# Altium schematic symbol library 2.6 - STM32 L1系列单片机.SchLib: 27 symbols (part 1 of 2)
Pins are listed as number, name and electrical type; pins without a type are passive.

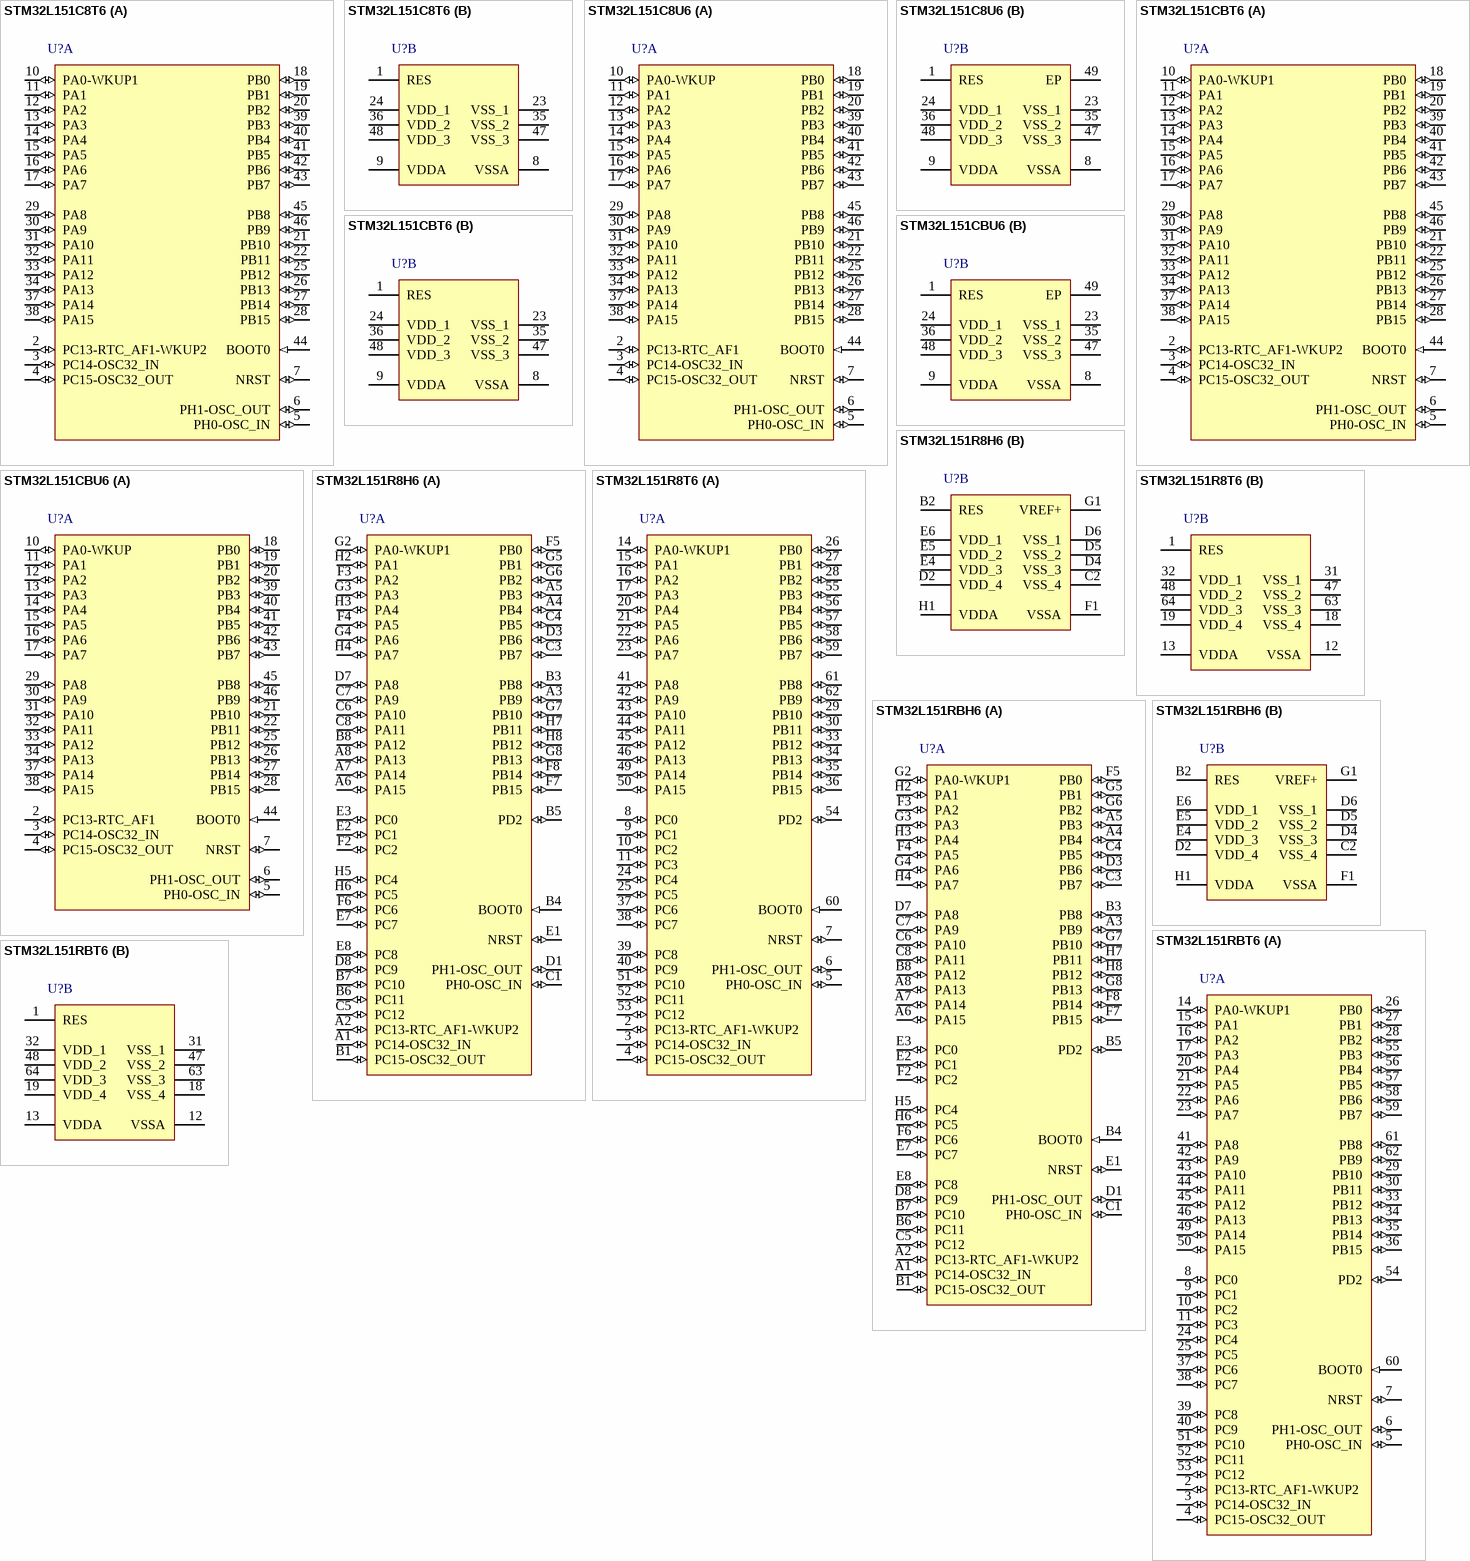
[diagram p0: symbols STM32L151C8T6 to STM32L151RBT6]

## STM32L151C8T6
designator U?
STM32L ARM-based EnergyLite 32-bit MCU, 64 kB Flash, 10 kB Internal RAM, -40 to +85癈 Temperature, 48-pin LQFP, Tray; DatasheetVersion: rev6, Jan-2012; PackageVersion: rev13, Apr-2011; PackageReference: LQFP48; PackageDescription: 48-Pin Low-Profile Quad Flat Pack, 7 x 7 mm Body, 0.5 mm Pitch (LQFP48); ComponentLink1Description: Manufacturer URL; ComponentLink1URL: http://www.st.com/; ComponentLink2Description: STM32L151/152 Datasheet; ComponentLink2URL: http://www.st.com/internet/com/TECHNICAL_RESOURCES/TECHNICAL_LITERATURE/DATASHEET/CD00277537.pdf; ComponentLink3Description: STM32 L1 Family Web Page; ComponentLink3URL: http://www.st.com/internet/mcu/subclass/1376.jsp
footprint LQFP48_N (Thin QFP, 48-Leads, Body 7x7mm, Pitch 0.5mm, IPC Medium Density)
footprint LQFP48_L (Thin QFP, 48-Leads, Body 7x7mm, Pitch 0.5mm, IPC High Density)
footprint LQFP48_M (Thin QFP, 48-Leads, Body 7x7mm, Pitch 0.5mm, IPC Low Density)
part A pins: 2 PC13-RTC_AF1-WKUP2 (io), 3 PC14-OSC32_IN (io), 4 PC15-OSC32_OUT (io), 5 PH0-OSC_IN (io), 6 PH1-OSC_OUT (io), 7 NRST (io), 10 PA0-WKUP1 (io), 11 PA1 (io), 12 PA2 (io), 13 PA3 (io), 14 PA4 (io), 15 PA5 (io), 16 PA6 (io), 17 PA7 (io), 18 PB0 (io), 19 PB1 (io), 20 PB2 (io), 21 PB10 (io), 22 PB11 (io), 25 PB12 (io), 26 PB13 (io), 27 PB14 (io), 28 PB15 (io), 29 PA8 (io), 30 PA9 (io), 31 PA10 (io), 32 PA11 (io), 33 PA12 (io), 34 PA13 (io), 37 PA14 (io), 38 PA15 (io), 39 PB3 (io), 40 PB4 (io), 41 PB5 (io), 42 PB6 (io), 43 PB7 (io), 44 BOOT0 (in), 45 PB8 (io), 46 PB9 (io)
part B pins: 1 RES (power) "Connect to VDD", 8 VSSA (power), 9 VDDA (power), 23 VSS_1 (power), 24 VDD_1 (power), 35 VSS_2 (power), 36 VDD_2 (power), 47 VSS_3 (power), 48 VDD_3 (power)

## STM32L151C8U6
designator U?
STM32L ARM-based EnergyLite 32-bit MCU, 64 kB Flash, 10 kB Internal RAM, -40 to +85癈 Temperature, 48-pin UFQFPN, Tray; DatasheetVersion: rev6, Jan-2012; PackageVersion: 2011; PackageReference: UFQFPN48; PackageDescription: 48-Pin Ultra Thin Fine Pitch Quad Flat No-Lead, 7 x 7 x 0.55 mm Body, 0.5 mm Pitch, Exposed Pad; ComponentLink1Description: Manufacturer URL; ComponentLink1URL: http://www.st.com/; ComponentLink2Description: STM32L151/152 Datasheet; ComponentLink2URL: http://www.st.com/internet/com/TECHNICAL_RESOURCES/TECHNICAL_LITERATURE/DATASHEET/CD00277537.pdf; ComponentLink3Description: STM32 L1 Family Web Page; ComponentLink3URL: http://www.st.com/internet/mcu/subclass/1376.jsp
footprint UFQFPN48_N (QFN, 48-Leads, Body 7x7mm, Pitch 0.5mm, Thermal Pad 5.6x5.6mm, IPC Medium Density)
footprint UFQFPN48_L (QFN, 48-Leads, Body 7x7mm, Pitch 0.5mm, Thermal Pad 5.6x5.6mm, IPC High Density)
footprint UFQFPN48_M (QFN, 48-Leads, Body 7x7mm, Pitch 0.5mm, Thermal Pad 5.6x5.6mm, IPC Low Density)
part A pins: 2 PC13-RTC_AF1 (io), 3 PC14-OSC32_IN (io), 4 PC15-OSC32_OUT (io), 5 PH0-OSC_IN (io), 6 PH1-OSC_OUT (io), 7 NRST (io), 10 PA0-WKUP (io), 11 PA1 (io), 12 PA2 (io), 13 PA3 (io), 14 PA4 (io), 15 PA5 (io), 16 PA6 (io), 17 PA7 (io), 18 PB0 (io), 19 PB1 (io), 20 PB2 (io), 21 PB10 (io), 22 PB11 (io), 25 PB12 (io), 26 PB13 (io), 27 PB14 (io), 28 PB15 (io), 29 PA8 (io), 30 PA9 (io), 31 PA10 (io), 32 PA11 (io), 33 PA12 (io), 34 PA13 (io), 37 PA14 (io), 38 PA15 (io), 39 PB3 (io), 40 PB4 (io), 41 PB5 (io), 42 PB6 (io), 43 PB7 (io), 44 BOOT0 (in), 45 PB8 (io), 46 PB9 (io)
part B pins: 1 RES (power) "Connect to VDD", 8 VSSA (power), 9 VDDA (power), 23 VSS_1 (power), 24 VDD_1 (power), 35 VSS_2 (power), 36 VDD_2 (power), 47 VSS_3 (power), 48 VDD_3 (power), 49 EP (power)

## STM32L151CBT6
designator U?
STM32L ARM-based EnergyLite 32-bit MCU, 128 kB Flash, 16 kB Internal RAM, -40 to +85癈 Temperature, 48-pin LQFP, Tray; DatasheetVersion: rev6, Jan-2012; PackageVersion: rev13, Apr-2011; PackageReference: LQFP48; PackageDescription: 48-Pin Low-Profile Quad Flat Pack, 7 x 7 mm Body, 0.5 mm Pitch (LQFP48); ComponentLink1Description: Manufacturer URL; ComponentLink1URL: http://www.st.com/; ComponentLink2Description: STM32L151/152 Datasheet; ComponentLink2URL: http://www.st.com/internet/com/TECHNICAL_RESOURCES/TECHNICAL_LITERATURE/DATASHEET/CD00277537.pdf; ComponentLink3Description: STM32 L1 Family Web Page; ComponentLink3URL: http://www.st.com/internet/mcu/subclass/1376.jsp
footprint LQFP48_N (Thin QFP, 48-Leads, Body 7x7mm, Pitch 0.5mm, IPC Medium Density)
footprint LQFP48_L (Thin QFP, 48-Leads, Body 7x7mm, Pitch 0.5mm, IPC High Density)
footprint LQFP48_M (Thin QFP, 48-Leads, Body 7x7mm, Pitch 0.5mm, IPC Low Density)
part A pins: 2 PC13-RTC_AF1-WKUP2 (io), 3 PC14-OSC32_IN (io), 4 PC15-OSC32_OUT (io), 5 PH0-OSC_IN (io), 6 PH1-OSC_OUT (io), 7 NRST (io), 10 PA0-WKUP1 (io), 11 PA1 (io), 12 PA2 (io), 13 PA3 (io), 14 PA4 (io), 15 PA5 (io), 16 PA6 (io), 17 PA7 (io), 18 PB0 (io), 19 PB1 (io), 20 PB2 (io), 21 PB10 (io), 22 PB11 (io), 25 PB12 (io), 26 PB13 (io), 27 PB14 (io), 28 PB15 (io), 29 PA8 (io), 30 PA9 (io), 31 PA10 (io), 32 PA11 (io), 33 PA12 (io), 34 PA13 (io), 37 PA14 (io), 38 PA15 (io), 39 PB3 (io), 40 PB4 (io), 41 PB5 (io), 42 PB6 (io), 43 PB7 (io), 44 BOOT0 (in), 45 PB8 (io), 46 PB9 (io)
part B pins: 1 RES (power) "Connect to VDD", 8 VSSA (power), 9 VDDA (power), 23 VSS_1 (power), 24 VDD_1 (power), 35 VSS_2 (power), 36 VDD_2 (power), 47 VSS_3 (power), 48 VDD_3 (power)

## STM32L151CBU6
designator U?
STM32L ARM-based EnergyLite 32-bit MCU, 128 kB Flash, 16 kB Internal RAM, -40 to +85癈 Temperature, 48-pin UFQFPN, Tray; DatasheetVersion: rev6, Jan-2012; PackageVersion: 2011; PackageReference: UFQFPN48; PackageDescription: 48-Pin Ultra Thin Fine Pitch Quad Flat No-Lead, 7 x 7 x 0.55 mm Body, 0.5 mm Pitch, Exposed Pad; ComponentLink1Description: Manufacturer URL; ComponentLink1URL: http://www.st.com/; ComponentLink2Description: STM32L151/152 Datasheet; ComponentLink2URL: http://www.st.com/internet/com/TECHNICAL_RESOURCES/TECHNICAL_LITERATURE/DATASHEET/CD00277537.pdf; ComponentLink3Description: STM32 L1 Family Web Page; ComponentLink3URL: http://www.st.com/internet/mcu/subclass/1376.jsp
footprint UFQFPN48_N (QFN, 48-Leads, Body 7x7mm, Pitch 0.5mm, Thermal Pad 5.6x5.6mm, IPC Medium Density)
footprint UFQFPN48_L (QFN, 48-Leads, Body 7x7mm, Pitch 0.5mm, Thermal Pad 5.6x5.6mm, IPC High Density)
footprint UFQFPN48_M (QFN, 48-Leads, Body 7x7mm, Pitch 0.5mm, Thermal Pad 5.6x5.6mm, IPC Low Density)
part A pins: 2 PC13-RTC_AF1 (io), 3 PC14-OSC32_IN (io), 4 PC15-OSC32_OUT (io), 5 PH0-OSC_IN (io), 6 PH1-OSC_OUT (io), 7 NRST (io), 10 PA0-WKUP (io), 11 PA1 (io), 12 PA2 (io), 13 PA3 (io), 14 PA4 (io), 15 PA5 (io), 16 PA6 (io), 17 PA7 (io), 18 PB0 (io), 19 PB1 (io), 20 PB2 (io), 21 PB10 (io), 22 PB11 (io), 25 PB12 (io), 26 PB13 (io), 27 PB14 (io), 28 PB15 (io), 29 PA8 (io), 30 PA9 (io), 31 PA10 (io), 32 PA11 (io), 33 PA12 (io), 34 PA13 (io), 37 PA14 (io), 38 PA15 (io), 39 PB3 (io), 40 PB4 (io), 41 PB5 (io), 42 PB6 (io), 43 PB7 (io), 44 BOOT0 (in), 45 PB8 (io), 46 PB9 (io)
part B pins: 1 RES (power) "Connect to VDD", 8 VSSA (power), 9 VDDA (power), 23 VSS_1 (power), 24 VDD_1 (power), 35 VSS_2 (power), 36 VDD_2 (power), 47 VSS_3 (power), 48 VDD_3 (power), 49 EP (power)

## STM32L151R8H6
designator U?
STM32L ARM-based EnergyLite 32-bit MCU, 64 kB Flash, 10 kB Internal RAM, -40 to +85癈 Temperature, 64-pin TFBGA, Tray; DatasheetVersion: rev6, Jan-2012; PackageVersion: 2011; PackageReference: TFBGA64; PackageDescription: 64-Ball Thin Fine-Pitch BGA (8x8 Array), 5 x 5 mm Body, 0.5 mm Pitch; ComponentLink1Description: Manufacturer URL; ComponentLink1URL: http://www.st.com/; ComponentLink2Description: STM32L151/152 Datasheet; ComponentLink2URL: http://www.st.com/internet/com/TECHNICAL_RESOURCES/TECHNICAL_LITERATURE/DATASHEET/CD00277537.pdf; ComponentLink3Description: STM32 L1 Family Web Page; ComponentLink3URL: http://www.st.com/internet/mcu/subclass/1376.jsp
footprint TFBGA64 (BGA, 64-Leads, Body 5x5mm, Pitch 0.5mm)
part A pins: A1 PC14-OSC32_IN (io), A2 PC13-RTC_AF1-WKUP2 (io), A3 PB9 (io), A4 PB4 (io), A5 PB3 (io), A6 PA15 (io), A7 PA14 (io), A8 PA13 (io), B1 PC15-OSC32_OUT (io), B3 PB8 (io), B4 BOOT0 (in), B5 PD2 (io), B6 PC11 (io), B7 PC10 (io), B8 PA12 (io), C1 PH0-OSC_IN (io), C3 PB7 (io), C4 PB5 (io), C5 PC12 (io), C6 PA10 (io), C7 PA9 (io), C8 PA11 (io), D1 PH1-OSC_OUT (io), D3 PB6 (io), D7 PA8 (io), D8 PC9 (io), E1 NRST (io), E2 PC1 (io), E3 PC0 (io), E7 PC7 (io), E8 PC8 (io), F2 PC2 (io), F3 PA2 (io), F4 PA5 (io), F5 PB0 (io), F6 PC6 (io), F7 PB15 (io), F8 PB14 (io), G2 PA0-WKUP1 (io), G3 PA3 (io), G4 PA6 (io), G5 PB1 (io), G6 PB2 (io), G7 PB10 (io), G8 PB13 (io), H2 PA1 (io), H3 PA4 (io), H4 PA7 (io), H5 PC4 (io), H6 PC5 (io), H7 PB11 (io), H8 PB12 (io)
part B pins: B2 RES (power) "Connect to VDD", C2 VSS_4 (power), D2 VDD_4 (power), D4 VSS_3 (power), D5 VSS_2 (power), D6 VSS_1 (power), E4 VDD_3 (power), E5 VDD_2 (power), E6 VDD_1 (power), F1 VSSA (power), G1 VREF+ (power), H1 VDDA (power)

## STM32L151R8T6
designator U?
STM32L ARM-based EnergyLite 32-bit MCU, 64 kB Flash, 10 kB Internal RAM, -40 to +85癈 Temperature, 64-pin LQFP, Tray; DatasheetVersion: rev6, Jan-2012; PackageVersion: rev13, Apr-2011; PackageReference: LQFP64; PackageDescription: 64-Pin Low-Profile Quad Flat Pack, 10 x 10 mm Body, 0.5 mm Pitch (LQFP64); ComponentLink1Description: Manufacturer URL; ComponentLink1URL: http://www.st.com/; ComponentLink2Description: STM32L151/152 Datasheet; ComponentLink2URL: http://www.st.com/internet/com/TECHNICAL_RESOURCES/TECHNICAL_LITERATURE/DATASHEET/CD00277537.pdf; ComponentLink3Description: STM32 L1 Family Web Page; ComponentLink3URL: http://www.st.com/internet/mcu/subclass/1376.jsp
footprint LQFP64_N (Thin QFP, 64-Leads, Body 10x10mm, Pitch 0.5mm, IPC Medium Density)
footprint LQFP64_L (Thin QFP, 64-Leads, Body 10x10mm, Pitch 0.5mm, IPC High Density)
footprint LQFP64_M (Thin QFP, 64-Leads, Body 10x10mm, Pitch 0.5mm, IPC Low Density)
part A pins: 2 PC13-RTC_AF1-WKUP2 (io), 3 PC14-OSC32_IN (io), 4 PC15-OSC32_OUT (io), 5 PH0-OSC_IN (io), 6 PH1-OSC_OUT (io), 7 NRST (io), 8 PC0 (io), 9 PC1 (io), 10 PC2 (io), 11 PC3 (io), 14 PA0-WKUP1 (io), 15 PA1 (io), 16 PA2 (io), 17 PA3 (io), 20 PA4 (io), 21 PA5 (io), 22 PA6 (io), 23 PA7 (io), 24 PC4 (io), 25 PC5 (io), 26 PB0 (io), 27 PB1 (io), 28 PB2 (io), 29 PB10 (io), 30 PB11 (io), 33 PB12 (io), 34 PB13 (io), 35 PB14 (io), 36 PB15 (io), 37 PC6 (io), 38 PC7 (io), 39 PC8 (io), 40 PC9 (io), 41 PA8 (io), 42 PA9 (io), 43 PA10 (io), 44 PA11 (io), 45 PA12 (io), 46 PA13 (io), 49 PA14 (io), 50 PA15 (io), 51 PC10 (io), 52 PC11 (io), 53 PC12 (io), 54 PD2 (io), 55 PB3 (io), 56 PB4 (io), 57 PB5 (io), 58 PB6 (io), 59 PB7 (io), 60 BOOT0 (in), 61 PB8 (io), 62 PB9 (io)
part B pins: 1 RES (power) "Connect to VDD", 12 VSSA (power), 13 VDDA (power), 18 VSS_4 (power), 19 VDD_4 (power), 31 VSS_1 (power), 32 VDD_1 (power), 47 VSS_2 (power), 48 VDD_2 (power), 63 VSS_3 (power), 64 VDD_3 (power)

## STM32L151RBH6
designator U?
STM32L ARM-based EnergyLite 32-bit MCU, 128 kB Flash, 16 kB Internal RAM, -40 to +85癈 Temperature, 64-pin TFBGA, Tray; DatasheetVersion: rev6, Jan-2012; PackageVersion: 2011; PackageReference: TFBGA64; PackageDescription: 64-Ball Thin Fine-Pitch BGA (8x8 Array), 5 x 5 mm Body, 0.5 mm Pitch; ComponentLink1Description: Manufacturer URL; ComponentLink1URL: http://www.st.com/; ComponentLink2Description: STM32L151/152 Datasheet; ComponentLink2URL: http://www.st.com/internet/com/TECHNICAL_RESOURCES/TECHNICAL_LITERATURE/DATASHEET/CD00277537.pdf; ComponentLink3Description: STM32 L1 Family Web Page; ComponentLink3URL: http://www.st.com/internet/mcu/subclass/1376.jsp
footprint TFBGA64 (BGA, 64-Leads, Body 5x5mm, Pitch 0.5mm)
part A pins: A1 PC14-OSC32_IN (io), A2 PC13-RTC_AF1-WKUP2 (io), A3 PB9 (io), A4 PB4 (io), A5 PB3 (io), A6 PA15 (io), A7 PA14 (io), A8 PA13 (io), B1 PC15-OSC32_OUT (io), B3 PB8 (io), B4 BOOT0 (in), B5 PD2 (io), B6 PC11 (io), B7 PC10 (io), B8 PA12 (io), C1 PH0-OSC_IN (io), C3 PB7 (io), C4 PB5 (io), C5 PC12 (io), C6 PA10 (io), C7 PA9 (io), C8 PA11 (io), D1 PH1-OSC_OUT (io), D3 PB6 (io), D7 PA8 (io), D8 PC9 (io), E1 NRST (io), E2 PC1 (io), E3 PC0 (io), E7 PC7 (io), E8 PC8 (io), F2 PC2 (io), F3 PA2 (io), F4 PA5 (io), F5 PB0 (io), F6 PC6 (io), F7 PB15 (io), F8 PB14 (io), G2 PA0-WKUP1 (io), G3 PA3 (io), G4 PA6 (io), G5 PB1 (io), G6 PB2 (io), G7 PB10 (io), G8 PB13 (io), H2 PA1 (io), H3 PA4 (io), H4 PA7 (io), H5 PC4 (io), H6 PC5 (io), H7 PB11 (io), H8 PB12 (io)
part B pins: B2 RES (power) "Connect to VDD", C2 VSS_4 (power), D2 VDD_4 (power), D4 VSS_3 (power), D5 VSS_2 (power), D6 VSS_1 (power), E4 VDD_3 (power), E5 VDD_2 (power), E6 VDD_1 (power), F1 VSSA (power), G1 VREF+ (power), H1 VDDA (power)

## STM32L151RBT6
designator U?
STM32L ARM-based EnergyLite 32-bit MCU, 128 kB Flash, 16 kB Internal RAM, -40 to +85癈 Temperature, 64-pin LQFP, Tray; DatasheetVersion: rev6, Jan-2012; PackageVersion: rev13, Apr-2011; PackageReference: LQFP64; PackageDescription: 64-Pin Low-Profile Quad Flat Pack, 10 x 10 mm Body, 0.5 mm Pitch (LQFP64); ComponentLink1Description: Manufacturer URL; ComponentLink1URL: http://www.st.com/; ComponentLink2Description: STM32L151/152 Datasheet; ComponentLink2URL: http://www.st.com/internet/com/TECHNICAL_RESOURCES/TECHNICAL_LITERATURE/DATASHEET/CD00277537.pdf; ComponentLink3Description: STM32 L1 Family Web Page; ComponentLink3URL: http://www.st.com/internet/mcu/subclass/1376.jsp
footprint LQFP64_N (Thin QFP, 64-Leads, Body 10x10mm, Pitch 0.5mm, IPC Medium Density)
footprint LQFP64_L (Thin QFP, 64-Leads, Body 10x10mm, Pitch 0.5mm, IPC High Density)
footprint LQFP64_M (Thin QFP, 64-Leads, Body 10x10mm, Pitch 0.5mm, IPC Low Density)
part A pins: 2 PC13-RTC_AF1-WKUP2 (io), 3 PC14-OSC32_IN (io), 4 PC15-OSC32_OUT (io), 5 PH0-OSC_IN (io), 6 PH1-OSC_OUT (io), 7 NRST (io), 8 PC0 (io), 9 PC1 (io), 10 PC2 (io), 11 PC3 (io), 14 PA0-WKUP1 (io), 15 PA1 (io), 16 PA2 (io), 17 PA3 (io), 20 PA4 (io), 21 PA5 (io), 22 PA6 (io), 23 PA7 (io), 24 PC4 (io), 25 PC5 (io), 26 PB0 (io), 27 PB1 (io), 28 PB2 (io), 29 PB10 (io), 30 PB11 (io), 33 PB12 (io), 34 PB13 (io), 35 PB14 (io), 36 PB15 (io), 37 PC6 (io), 38 PC7 (io), 39 PC8 (io), 40 PC9 (io), 41 PA8 (io), 42 PA9 (io), 43 PA10 (io), 44 PA11 (io), 45 PA12 (io), 46 PA13 (io), 49 PA14 (io), 50 PA15 (io), 51 PC10 (io), 52 PC11 (io), 53 PC12 (io), 54 PD2 (io), 55 PB3 (io), 56 PB4 (io), 57 PB5 (io), 58 PB6 (io), 59 PB7 (io), 60 BOOT0 (in), 61 PB8 (io), 62 PB9 (io)
part B pins: 1 RES (power) "Connect to VDD", 12 VSSA (power), 13 VDDA (power), 18 VSS_4 (power), 19 VDD_4 (power), 31 VSS_1 (power), 32 VDD_1 (power), 47 VSS_2 (power), 48 VDD_2 (power), 63 VSS_3 (power), 64 VDD_3 (power)

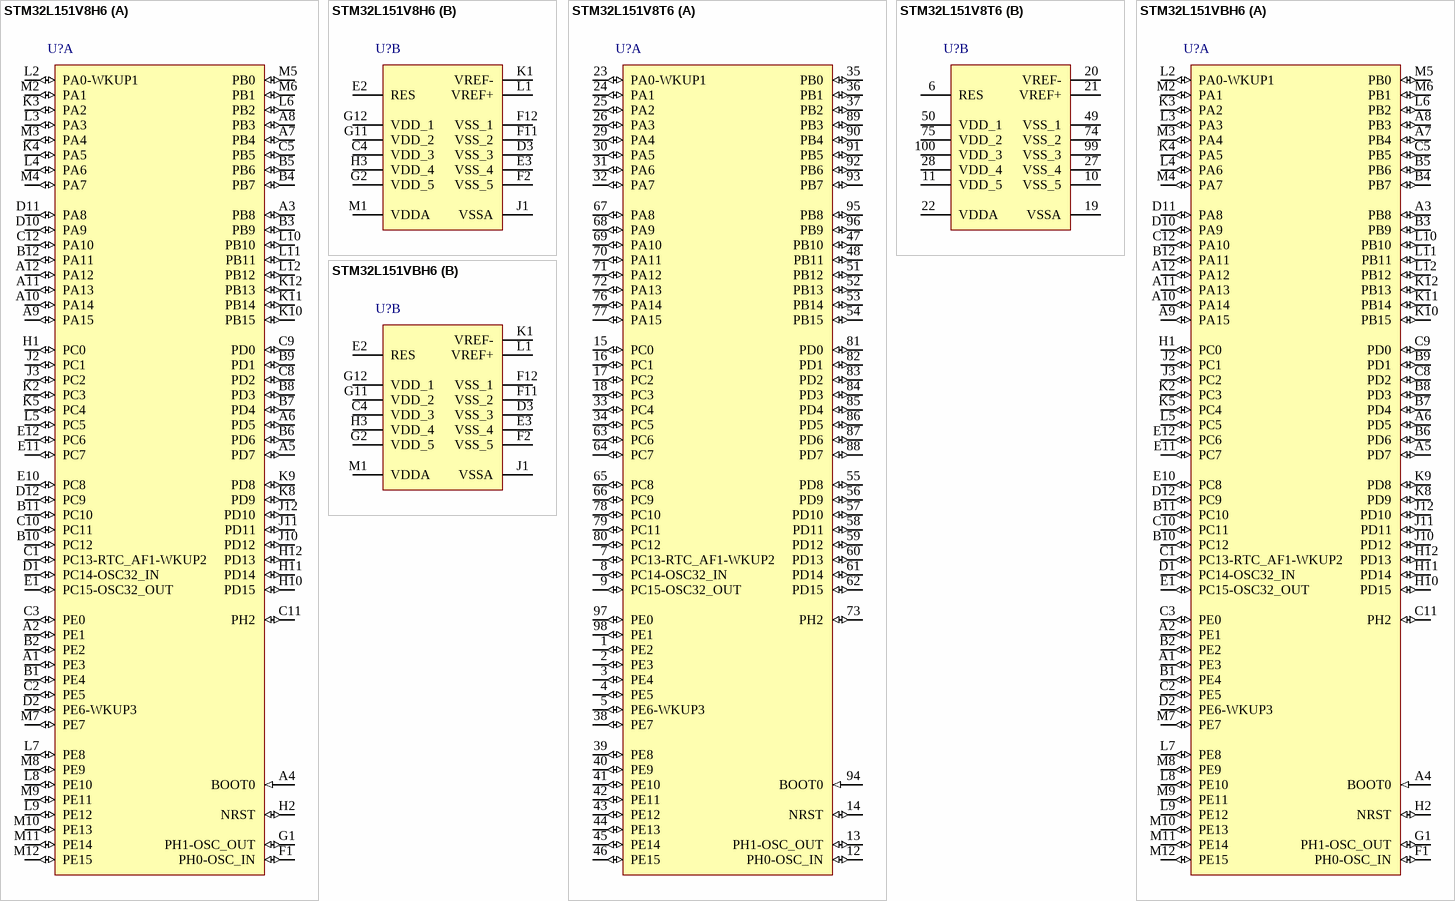
[diagram p1: symbols STM32L151V8H6 to STM32L151VBH6]

## STM32L151V8H6
designator U?
STM32L ARM-based EnergyLite 32-bit MCU, 64 kB Flash, 10 kB Internal RAM, -40 to +85癈 Temperature, 100-pin UFBGA, Tray; DatasheetVersion: rev6, Jan-2012; PackageVersion: 2011; PackageReference: UFBGA100; PackageDescription: 100-Ball Ultra Fine-Pitch Ball Grid Array, 7 x 7 mm Body, 0.5 mm Pitch; ComponentLink1Description: Manufacturer URL; ComponentLink1URL: http://www.st.com/; ComponentLink2Description: STM32L151/152 Datasheet; ComponentLink2URL: http://www.st.com/internet/com/TECHNICAL_RESOURCES/TECHNICAL_LITERATURE/DATASHEET/CD00277537.pdf; ComponentLink3Description: STM32 L1 Family Web Page; ComponentLink3URL: http://www.st.com/internet/mcu/subclass/1376.jsp
footprint UFBGA100 (BGA, 100-Leads, Body 7x7mm, Pitch 0.5mm)
part A pins: A1 PE3 (io), A2 PE1 (io), A3 PB8 (io), A4 BOOT0 (in), A5 PD7 (io), A6 PD5 (io), A7 PB4 (io), A8 PB3 (io), A9 PA15 (io), A10 PA14 (io), A11 PA13 (io), A12 PA12 (io), B1 PE4 (io), B2 PE2 (io), B3 PB9 (io), B4 PB7 (io), B5 PB6 (io), B6 PD6 (io), B7 PD4 (io), B8 PD3 (io), B9 PD1 (io), B10 PC12 (io), B11 PC10 (io), B12 PA11 (io), C1 PC13-RTC_AF1-WKUP2 (io), C2 PE5 (io), C3 PE0 (io), C5 PB5 (io), C8 PD2 (io), C9 PD0 (io), C10 PC11 (io), C11 PH2 (io), C12 PA10 (io), D1 PC14-OSC32_IN (io), D2 PE6-WKUP3 (io), D10 PA9 (io), D11 PA8 (io), D12 PC9 (io), E1 PC15-OSC32_OUT (io), E10 PC8 (io), E11 PC7 (io), E12 PC6 (io), F1 PH0-OSC_IN (io), G1 PH1-OSC_OUT (io), H1 PC0 (io), H2 NRST (io), H10 PD15 (io), H11 PD14 (io), H12 PD13 (io), J2 PC1 (io), J3 PC2 (io), J10 PD12 (io), J11 PD11 (io), J12 PD10 (io), K2 PC3 (io), K3 PA2 (io), K4 PA5 (io), K5 PC4 (io), K8 PD9 (io), K9 PD8 (io), K10 PB15 (io), K11 PB14 (io), K12 PB13 (io), L2 PA0-WKUP1 (io), L3 PA3 (io), L4 PA6 (io), L5 PC5 (io), L6 PB2 (io), L7 PE8 (io), L8 PE10 (io), L9 PE12 (io), L10 PB10 (io), L11 PB11 (io), L12 PB12 (io), M2 PA1 (io), M3 PA4 (io), M4 PA7 (io), M5 PB0 (io), M6 PB1 (io), M7 PE7 (io), M8 PE9 (io), M9 PE11 (io), M10 PE13 (io), M11 PE14 (io), M12 PE15 (io)
part B pins: C4 VDD_3 (power), D3 VSS_3 (power), E2 RES (power) "Connect to VDD", E3 VSS_4 (power), F2 VSS_5 (power), F11 VSS_2 (power), F12 VSS_1 (power), G2 VDD_5 (power), G11 VDD_2 (power), G12 VDD_1 (power), H3 VDD_4 (power), J1 VSSA (power), K1 VREF- (power), L1 VREF+ (power), M1 VDDA (power)

## STM32L151V8T6
designator U?
STM32L ARM-based EnergyLite 32-bit MCU, 64 kB Flash, 10 kB Internal RAM, -40 to +85癈 Temperature, 100-pin LQFP, Tray; DatasheetVersion: rev6, Jan-2012; PackageVersion: 2012; PackageReference: LQFP100; PackageDescription: 100-Pin Low Profile Quad Flat Package, 14x14 mm Body, 0.5 mm Pitch; ComponentLink1Description: Manufacturer URL; ComponentLink1URL: http://www.st.com/; ComponentLink2Description: STM32L151/152 Datasheet; ComponentLink2URL: http://www.st.com/internet/com/TECHNICAL_RESOURCES/TECHNICAL_LITERATURE/DATASHEET/CD00277537.pdf; ComponentLink3Description: STM32 L1 Family Web Page; ComponentLink3URL: http://www.st.com/internet/mcu/subclass/1376.jsp
footprint LQFP100_V (Thin QFP, 100-Leads, Body 14x14mm, Pitch 0.5mm, ST Recommended)
footprint LQFP100_N (Thin QFP, 100-Leads, Body 14x14mm, Pitch 0.5mm, IPC Medium Density)
footprint LQFP100_L (Thin QFP, 100-Leads, Body 14x14mm, Pitch 0.5mm, IPC High Density)
footprint LQFP100_M (Thin QFP, 100-Leads, Body 14x14mm, Pitch 0.5mm, IPC Low Density)
part A pins: 1 PE2 (io), 2 PE3 (io), 3 PE4 (io), 4 PE5 (io), 5 PE6-WKUP3 (io), 7 PC13-RTC_AF1-WKUP2 (io), 8 PC14-OSC32_IN (io), 9 PC15-OSC32_OUT (io), 12 PH0-OSC_IN (io), 13 PH1-OSC_OUT (io), 14 NRST (io), 15 PC0 (io), 16 PC1 (io), 17 PC2 (io), 18 PC3 (io), 23 PA0-WKUP1 (io), 24 PA1 (io), 25 PA2 (io), 26 PA3 (io), 29 PA4 (io), 30 PA5 (io), 31 PA6 (io), 32 PA7 (io), 33 PC4 (io), 34 PC5 (io), 35 PB0 (io), 36 PB1 (io), 37 PB2 (io), 38 PE7 (io), 39 PE8 (io), 40 PE9 (io), 41 PE10 (io), 42 PE11 (io), 43 PE12 (io), 44 PE13 (io), 45 PE14 (io), 46 PE15 (io), 47 PB10 (io), 48 PB11 (io), 51 PB12 (io), 52 PB13 (io), 53 PB14 (io), 54 PB15 (io), 55 PD8 (io), 56 PD9 (io), 57 PD10 (io), 58 PD11 (io), 59 PD12 (io), 60 PD13 (io), 61 PD14 (io), 62 PD15 (io), 63 PC6 (io), 64 PC7 (io), 65 PC8 (io), 66 PC9 (io), 67 PA8 (io), 68 PA9 (io), 69 PA10 (io), 70 PA11 (io), 71 PA12 (io), 72 PA13 (io), 73 PH2 (io), 76 PA14 (io), 77 PA15 (io), 78 PC10 (io), 79 PC11 (io), 80 PC12 (io), 81 PD0 (io), 82 PD1 (io), 83 PD2 (io), 84 PD3 (io), 85 PD4 (io), 86 PD5 (io), 87 PD6 (io), 88 PD7 (io), 89 PB3 (io), 90 PB4 (io), 91 PB5 (io), 92 PB6 (io), 93 PB7 (io), 94 BOOT0 (in), 95 PB8 (io), 96 PB9 (io), 97 PE0 (io), 98 PE1 (io)
part B pins: 6 RES (power) "Connect to VDD", 10 VSS_5 (power), 11 VDD_5 (power), 19 VSSA (power), 20 VREF- (power), 21 VREF+ (power), 22 VDDA (power), 27 VSS_4 (power), 28 VDD_4 (power), 49 VSS_1 (power), 50 VDD_1 (power), 74 VSS_2 (power), 75 VDD_2 (power), 99 VSS_3 (power), 100 VDD_3 (power)

## STM32L151VBH6
designator U?
STM32L ARM-based EnergyLite 32-bit MCU, 128 kB Flash, 16 kB Internal RAM, -40 to +85癈 Temperature, 100-pin UFBGA, Tray; DatasheetVersion: rev6, Jan-2012; PackageVersion: 2011; PackageReference: UFBGA100; PackageDescription: 100-Ball Ultra Fine-Pitch Ball Grid Array, 7 x 7 mm Body, 0.5 mm Pitch; ComponentLink1Description: Manufacturer URL; ComponentLink1URL: http://www.st.com/; ComponentLink2Description: STM32L151/152 Datasheet; ComponentLink2URL: http://www.st.com/internet/com/TECHNICAL_RESOURCES/TECHNICAL_LITERATURE/DATASHEET/CD00277537.pdf; ComponentLink3Description: STM32 L1 Family Web Page; ComponentLink3URL: http://www.st.com/internet/mcu/subclass/1376.jsp
footprint UFBGA100 (BGA, 100-Leads, Body 7x7mm, Pitch 0.5mm)
part A pins: A1 PE3 (io), A2 PE1 (io), A3 PB8 (io), A4 BOOT0 (in), A5 PD7 (io), A6 PD5 (io), A7 PB4 (io), A8 PB3 (io), A9 PA15 (io), A10 PA14 (io), A11 PA13 (io), A12 PA12 (io), B1 PE4 (io), B2 PE2 (io), B3 PB9 (io), B4 PB7 (io), B5 PB6 (io), B6 PD6 (io), B7 PD4 (io), B8 PD3 (io), B9 PD1 (io), B10 PC12 (io), B11 PC10 (io), B12 PA11 (io), C1 PC13-RTC_AF1-WKUP2 (io), C2 PE5 (io), C3 PE0 (io), C5 PB5 (io), C8 PD2 (io), C9 PD0 (io), C10 PC11 (io), C11 PH2 (io), C12 PA10 (io), D1 PC14-OSC32_IN (io), D2 PE6-WKUP3 (io), D10 PA9 (io), D11 PA8 (io), D12 PC9 (io), E1 PC15-OSC32_OUT (io), E10 PC8 (io), E11 PC7 (io), E12 PC6 (io), F1 PH0-OSC_IN (io), G1 PH1-OSC_OUT (io), H1 PC0 (io), H2 NRST (io), H10 PD15 (io), H11 PD14 (io), H12 PD13 (io), J2 PC1 (io), J3 PC2 (io), J10 PD12 (io), J11 PD11 (io), J12 PD10 (io), K2 PC3 (io), K3 PA2 (io), K4 PA5 (io), K5 PC4 (io), K8 PD9 (io), K9 PD8 (io), K10 PB15 (io), K11 PB14 (io), K12 PB13 (io), L2 PA0-WKUP1 (io), L3 PA3 (io), L4 PA6 (io), L5 PC5 (io), L6 PB2 (io), L7 PE8 (io), L8 PE10 (io), L9 PE12 (io), L10 PB10 (io), L11 PB11 (io), L12 PB12 (io), M2 PA1 (io), M3 PA4 (io), M4 PA7 (io), M5 PB0 (io), M6 PB1 (io), M7 PE7 (io), M8 PE9 (io), M9 PE11 (io), M10 PE13 (io), M11 PE14 (io), M12 PE15 (io)
part B pins: C4 VDD_3 (power), D3 VSS_3 (power), E2 RES (power) "Connect to VDD", E3 VSS_4 (power), F2 VSS_5 (power), F11 VSS_2 (power), F12 VSS_1 (power), G2 VDD_5 (power), G11 VDD_2 (power), G12 VDD_1 (power), H3 VDD_4 (power), J1 VSSA (power), K1 VREF- (power), L1 VREF+ (power), M1 VDDA (power)

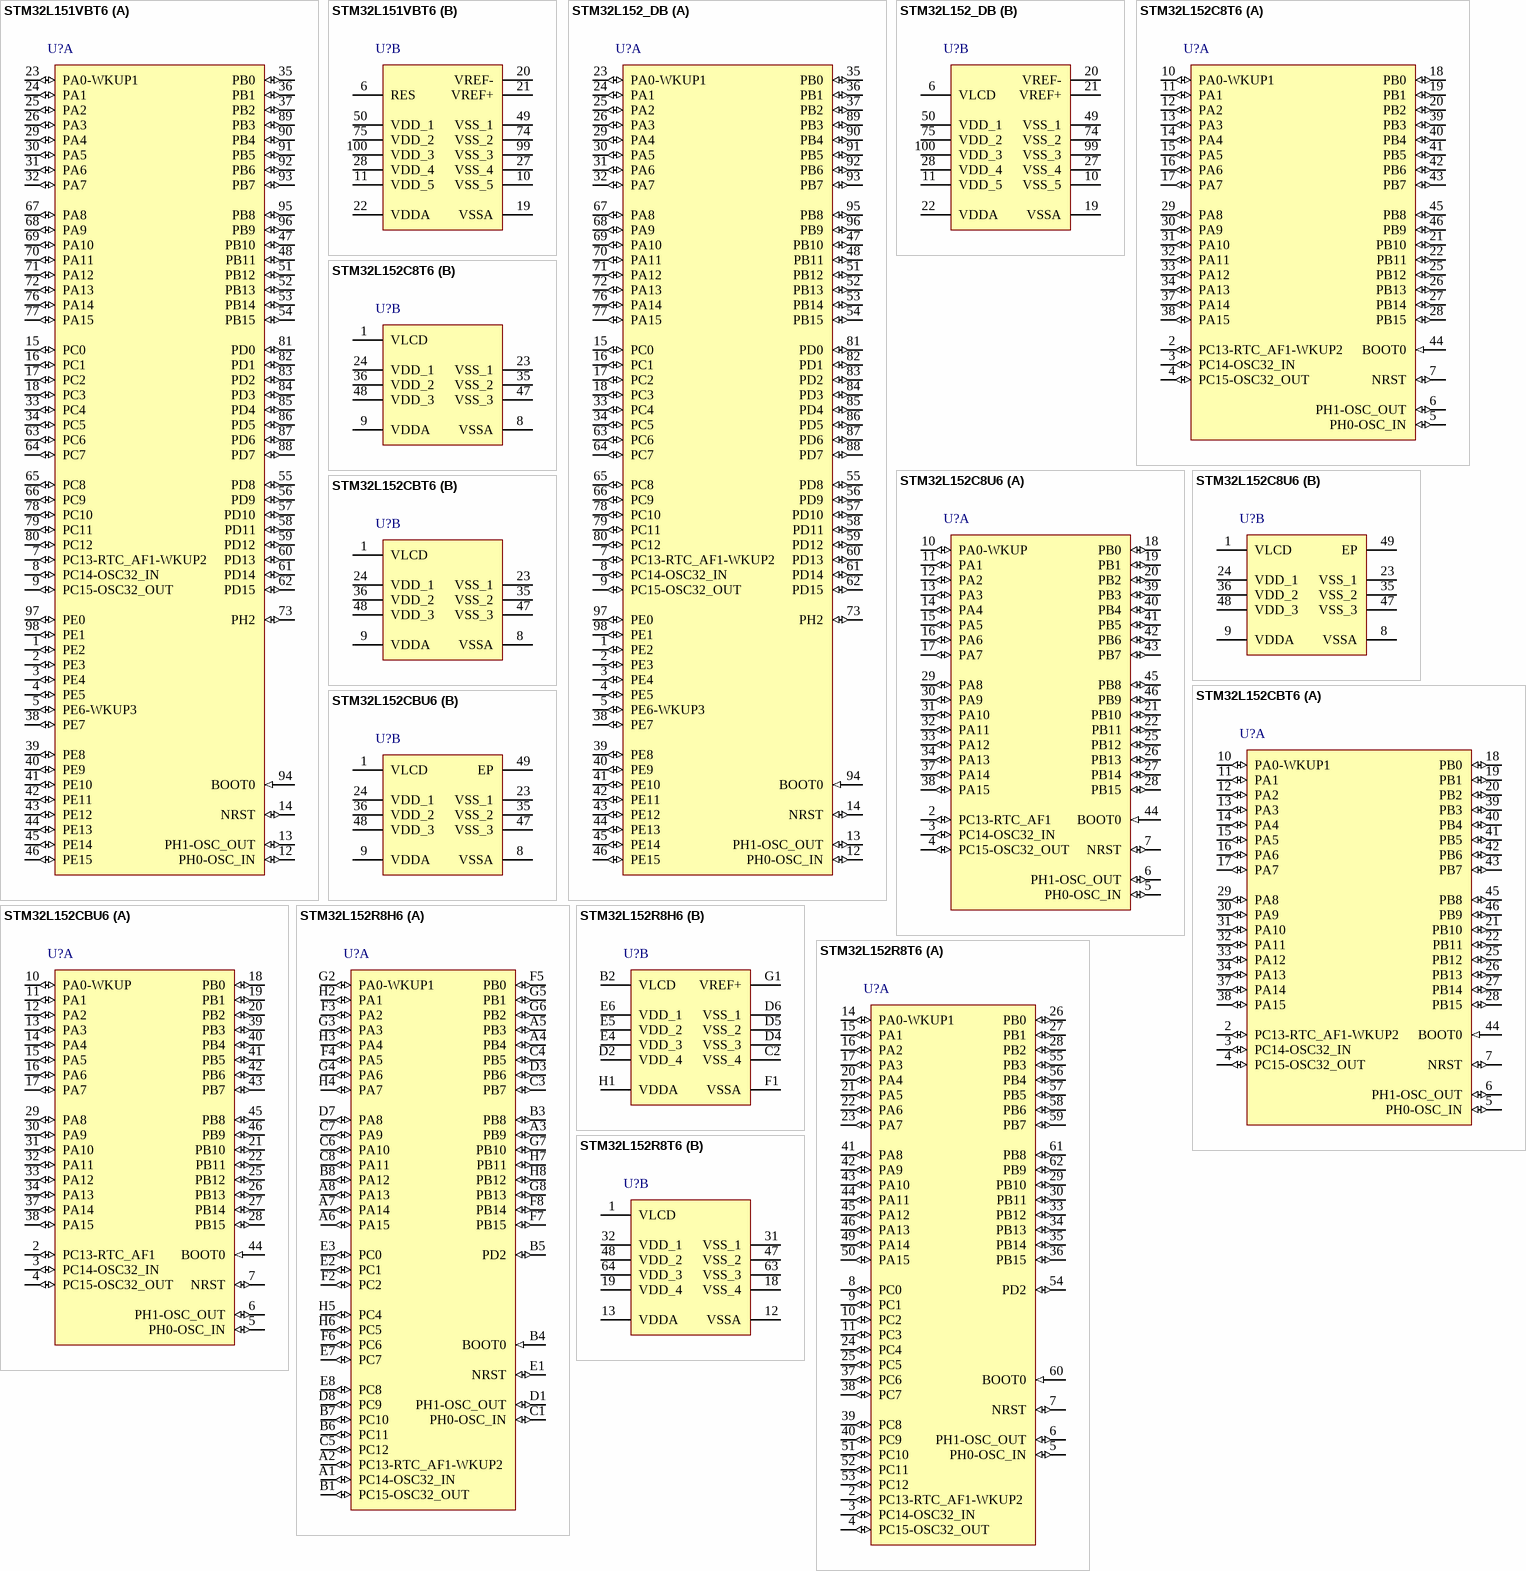
[diagram p2: symbols STM32L151VBT6 to STM32L152R8T6]

## STM32L151VBT6
designator U?
STM32L ARM-based EnergyLite 32-bit MCU, 128 kB Flash, 16 kB Internal RAM, -40 to +85癈 Temperature, 100-pin LQFP, Tray; DatasheetVersion: rev6, Jan-2012; PackageVersion: 2012; PackageReference: LQFP100; PackageDescription: 100-Pin Low Profile Quad Flat Package, 14x14 mm Body, 0.5 mm Pitch; ComponentLink1Description: Manufacturer URL; ComponentLink1URL: http://www.st.com/; ComponentLink2Description: STM32L151/152 Datasheet; ComponentLink2URL: http://www.st.com/internet/com/TECHNICAL_RESOURCES/TECHNICAL_LITERATURE/DATASHEET/CD00277537.pdf; ComponentLink3Description: STM32 L1 Family Web Page; ComponentLink3URL: http://www.st.com/internet/mcu/subclass/1376.jsp
footprint LQFP100_V (Thin QFP, 100-Leads, Body 14x14mm, Pitch 0.5mm, ST Recommended)
footprint LQFP100_N (Thin QFP, 100-Leads, Body 14x14mm, Pitch 0.5mm, IPC Medium Density)
footprint LQFP100_L (Thin QFP, 100-Leads, Body 14x14mm, Pitch 0.5mm, IPC High Density)
footprint LQFP100_M (Thin QFP, 100-Leads, Body 14x14mm, Pitch 0.5mm, IPC Low Density)
part A pins: 1 PE2 (io), 2 PE3 (io), 3 PE4 (io), 4 PE5 (io), 5 PE6-WKUP3 (io), 7 PC13-RTC_AF1-WKUP2 (io), 8 PC14-OSC32_IN (io), 9 PC15-OSC32_OUT (io), 12 PH0-OSC_IN (io), 13 PH1-OSC_OUT (io), 14 NRST (io), 15 PC0 (io), 16 PC1 (io), 17 PC2 (io), 18 PC3 (io), 23 PA0-WKUP1 (io), 24 PA1 (io), 25 PA2 (io), 26 PA3 (io), 29 PA4 (io), 30 PA5 (io), 31 PA6 (io), 32 PA7 (io), 33 PC4 (io), 34 PC5 (io), 35 PB0 (io), 36 PB1 (io), 37 PB2 (io), 38 PE7 (io), 39 PE8 (io), 40 PE9 (io), 41 PE10 (io), 42 PE11 (io), 43 PE12 (io), 44 PE13 (io), 45 PE14 (io), 46 PE15 (io), 47 PB10 (io), 48 PB11 (io), 51 PB12 (io), 52 PB13 (io), 53 PB14 (io), 54 PB15 (io), 55 PD8 (io), 56 PD9 (io), 57 PD10 (io), 58 PD11 (io), 59 PD12 (io), 60 PD13 (io), 61 PD14 (io), 62 PD15 (io), 63 PC6 (io), 64 PC7 (io), 65 PC8 (io), 66 PC9 (io), 67 PA8 (io), 68 PA9 (io), 69 PA10 (io), 70 PA11 (io), 71 PA12 (io), 72 PA13 (io), 73 PH2 (io), 76 PA14 (io), 77 PA15 (io), 78 PC10 (io), 79 PC11 (io), 80 PC12 (io), 81 PD0 (io), 82 PD1 (io), 83 PD2 (io), 84 PD3 (io), 85 PD4 (io), 86 PD5 (io), 87 PD6 (io), 88 PD7 (io), 89 PB3 (io), 90 PB4 (io), 91 PB5 (io), 92 PB6 (io), 93 PB7 (io), 94 BOOT0 (in), 95 PB8 (io), 96 PB9 (io), 97 PE0 (io), 98 PE1 (io)
part B pins: 6 RES (power) "Connect to VDD", 10 VSS_5 (power), 11 VDD_5 (power), 19 VSSA (power), 20 VREF- (power), 21 VREF+ (power), 22 VDDA (power), 27 VSS_4 (power), 28 VDD_4 (power), 49 VSS_1 (power), 50 VDD_1 (power), 74 VSS_2 (power), 75 VDD_2 (power), 99 VSS_3 (power), 100 VDD_3 (power)

## STM32L152_DB
designator U?
STM32L ARM-based EnergyLite 32-bit MCU, LCD, 128 kB Flash, 16 kB Internal RAM, -40 to +85癈 Temperature, 100-pin LQFP, Tape and Reel; DatasheetVersion: rev6, Jan-2012; PackageVersion: 2012; PackageReference: LQFP100; PackageDescription: 100-Pin Low Profile Quad Flat Package, 14x14 mm Body, 0.5 mm Pitch; ComponentLink1Description: Manufacturer URL; ComponentLink1URL: http://www.st.com/; ComponentLink2Description: STM32L151/152 Datasheet; ComponentLink2URL: http://www.st.com/internet/com/TECHNICAL_RESOURCES/TECHNICAL_LITERATURE/DATASHEET/CD00277537.pdf; ComponentLink3Description: STM32 L1 Family Web Page; ComponentLink3URL: http://www.st.com/internet/mcu/subclass/1376.jsp
footprint LQFP100_V (Thin QFP, 100-Leads, Body 14x14mm, Pitch 0.5mm, ST Recommended)
footprint LQFP100_N (Thin QFP, 100-Leads, Body 14x14mm, Pitch 0.5mm, IPC Medium Density)
footprint LQFP100_L (Thin QFP, 100-Leads, Body 14x14mm, Pitch 0.5mm, IPC High Density)
footprint LQFP100_M (Thin QFP, 100-Leads, Body 14x14mm, Pitch 0.5mm, IPC Low Density)
part A pins: 1 PE2 (io), 2 PE3 (io), 3 PE4 (io), 4 PE5 (io), 5 PE6-WKUP3 (io), 7 PC13-RTC_AF1-WKUP2 (io), 8 PC14-OSC32_IN (io), 9 PC15-OSC32_OUT (io), 12 PH0-OSC_IN (io), 13 PH1-OSC_OUT (io), 14 NRST (io), 15 PC0 (io), 16 PC1 (io), 17 PC2 (io), 18 PC3 (io), 23 PA0-WKUP1 (io), 24 PA1 (io), 25 PA2 (io), 26 PA3 (io), 29 PA4 (io), 30 PA5 (io), 31 PA6 (io), 32 PA7 (io), 33 PC4 (io), 34 PC5 (io), 35 PB0 (io), 36 PB1 (io), 37 PB2 (io), 38 PE7 (io), 39 PE8 (io), 40 PE9 (io), 41 PE10 (io), 42 PE11 (io), 43 PE12 (io), 44 PE13 (io), 45 PE14 (io), 46 PE15 (io), 47 PB10 (io), 48 PB11 (io), 51 PB12 (io), 52 PB13 (io), 53 PB14 (io), 54 PB15 (io), 55 PD8 (io), 56 PD9 (io), 57 PD10 (io), 58 PD11 (io), 59 PD12 (io), 60 PD13 (io), 61 PD14 (io), 62 PD15 (io), 63 PC6 (io), 64 PC7 (io), 65 PC8 (io), 66 PC9 (io), 67 PA8 (io), 68 PA9 (io), 69 PA10 (io), 70 PA11 (io), 71 PA12 (io), 72 PA13 (io), 73 PH2 (io), 76 PA14 (io), 77 PA15 (io), 78 PC10 (io), 79 PC11 (io), 80 PC12 (io), 81 PD0 (io), 82 PD1 (io), 83 PD2 (io), 84 PD3 (io), 85 PD4 (io), 86 PD5 (io), 87 PD6 (io), 88 PD7 (io), 89 PB3 (io), 90 PB4 (io), 91 PB5 (io), 92 PB6 (io), 93 PB7 (io), 94 BOOT0 (in), 95 PB8 (io), 96 PB9 (io), 97 PE0 (io), 98 PE1 (io)
part B pins: 6 VLCD (power), 10 VSS_5 (power), 11 VDD_5 (power), 19 VSSA (power), 20 VREF- (power), 21 VREF+ (power), 22 VDDA (power), 27 VSS_4 (power), 28 VDD_4 (power), 49 VSS_1 (power), 50 VDD_1 (power), 74 VSS_2 (power), 75 VDD_2 (power), 99 VSS_3 (power), 100 VDD_3 (power)

## STM32L152C8T6
designator U?
STM32L ARM-based EnergyLite 32-bit MCU, LCD, 64 kB Flash, 10 kB Internal RAM, -40 to +85癈 Temperature, 48-pin LQFP, Tray; DatasheetVersion: rev6, Jan-2012; PackageVersion: rev13, Apr-2011; PackageReference: LQFP48; PackageDescription: 48-Pin Low-Profile Quad Flat Pack, 7 x 7 mm Body, 0.5 mm Pitch (LQFP48); ComponentLink1Description: Manufacturer URL; ComponentLink1URL: http://www.st.com/; ComponentLink2Description: STM32L151/152 Datasheet; ComponentLink2URL: http://www.st.com/internet/com/TECHNICAL_RESOURCES/TECHNICAL_LITERATURE/DATASHEET/CD00277537.pdf; ComponentLink3Description: STM32 L1 Family Web Page; ComponentLink3URL: http://www.st.com/internet/mcu/subclass/1376.jsp
footprint LQFP48_N (Thin QFP, 48-Leads, Body 7x7mm, Pitch 0.5mm, IPC Medium Density)
footprint LQFP48_L (Thin QFP, 48-Leads, Body 7x7mm, Pitch 0.5mm, IPC High Density)
footprint LQFP48_M (Thin QFP, 48-Leads, Body 7x7mm, Pitch 0.5mm, IPC Low Density)
part A pins: 2 PC13-RTC_AF1-WKUP2 (io), 3 PC14-OSC32_IN (io), 4 PC15-OSC32_OUT (io), 5 PH0-OSC_IN (io), 6 PH1-OSC_OUT (io), 7 NRST (io), 10 PA0-WKUP1 (io), 11 PA1 (io), 12 PA2 (io), 13 PA3 (io), 14 PA4 (io), 15 PA5 (io), 16 PA6 (io), 17 PA7 (io), 18 PB0 (io), 19 PB1 (io), 20 PB2 (io), 21 PB10 (io), 22 PB11 (io), 25 PB12 (io), 26 PB13 (io), 27 PB14 (io), 28 PB15 (io), 29 PA8 (io), 30 PA9 (io), 31 PA10 (io), 32 PA11 (io), 33 PA12 (io), 34 PA13 (io), 37 PA14 (io), 38 PA15 (io), 39 PB3 (io), 40 PB4 (io), 41 PB5 (io), 42 PB6 (io), 43 PB7 (io), 44 BOOT0 (in), 45 PB8 (io), 46 PB9 (io)
part B pins: 1 VLCD (power), 8 VSSA (power), 9 VDDA (power), 23 VSS_1 (power), 24 VDD_1 (power), 35 VSS_2 (power), 36 VDD_2 (power), 47 VSS_3 (power), 48 VDD_3 (power)

## STM32L152C8U6
designator U?
STM32L ARM-based EnergyLite 32-bit MCU, LCD, 64 kB Flash, 10 kB Internal RAM, -40 to +85癈 Temperature, 48-pin UFQFPN, Tray; DatasheetVersion: rev6, Jan-2012; PackageVersion: 2011; PackageReference: UFQFPN48; PackageDescription: 48-Pin Ultra Thin Fine Pitch Quad Flat No-Lead, 7 x 7 x 0.55 mm Body, 0.5 mm Pitch, Exposed Pad; ComponentLink1Description: Manufacturer URL; ComponentLink1URL: http://www.st.com/; ComponentLink2Description: STM32L151/152 Datasheet; ComponentLink2URL: http://www.st.com/internet/com/TECHNICAL_RESOURCES/TECHNICAL_LITERATURE/DATASHEET/CD00277537.pdf; ComponentLink3Description: STM32 L1 Family Web Page; ComponentLink3URL: http://www.st.com/internet/mcu/subclass/1376.jsp
footprint UFQFPN48_N (QFN, 48-Leads, Body 7x7mm, Pitch 0.5mm, Thermal Pad 5.6x5.6mm, IPC Medium Density)
footprint UFQFPN48_L (QFN, 48-Leads, Body 7x7mm, Pitch 0.5mm, Thermal Pad 5.6x5.6mm, IPC High Density)
footprint UFQFPN48_M (QFN, 48-Leads, Body 7x7mm, Pitch 0.5mm, Thermal Pad 5.6x5.6mm, IPC Low Density)
part A pins: 2 PC13-RTC_AF1 (io), 3 PC14-OSC32_IN (io), 4 PC15-OSC32_OUT (io), 5 PH0-OSC_IN (io), 6 PH1-OSC_OUT (io), 7 NRST (io), 10 PA0-WKUP (io), 11 PA1 (io), 12 PA2 (io), 13 PA3 (io), 14 PA4 (io), 15 PA5 (io), 16 PA6 (io), 17 PA7 (io), 18 PB0 (io), 19 PB1 (io), 20 PB2 (io), 21 PB10 (io), 22 PB11 (io), 25 PB12 (io), 26 PB13 (io), 27 PB14 (io), 28 PB15 (io), 29 PA8 (io), 30 PA9 (io), 31 PA10 (io), 32 PA11 (io), 33 PA12 (io), 34 PA13 (io), 37 PA14 (io), 38 PA15 (io), 39 PB3 (io), 40 PB4 (io), 41 PB5 (io), 42 PB6 (io), 43 PB7 (io), 44 BOOT0 (in), 45 PB8 (io), 46 PB9 (io)
part B pins: 1 VLCD (power), 8 VSSA (power), 9 VDDA (power), 23 VSS_1 (power), 24 VDD_1 (power), 35 VSS_2 (power), 36 VDD_2 (power), 47 VSS_3 (power), 48 VDD_3 (power), 49 EP (power)

## STM32L152CBT6
designator U?
STM32L ARM-based EnergyLite 32-bit MCU, LCD, 128 kB Flash, 16 kB Internal RAM, -40 to +85癈 Temperature, 48-pin LQFP, Tray; DatasheetVersion: rev6, Jan-2012; PackageVersion: rev13, Apr-2011; PackageReference: LQFP48; PackageDescription: 48-Pin Low-Profile Quad Flat Pack, 7 x 7 mm Body, 0.5 mm Pitch (LQFP48); ComponentLink1Description: Manufacturer URL; ComponentLink1URL: http://www.st.com/; ComponentLink2Description: STM32L151/152 Datasheet; ComponentLink2URL: http://www.st.com/internet/com/TECHNICAL_RESOURCES/TECHNICAL_LITERATURE/DATASHEET/CD00277537.pdf; ComponentLink3Description: STM32 L1 Family Web Page; ComponentLink3URL: http://www.st.com/internet/mcu/subclass/1376.jsp
footprint LQFP48_N (Thin QFP, 48-Leads, Body 7x7mm, Pitch 0.5mm, IPC Medium Density)
footprint LQFP48_L (Thin QFP, 48-Leads, Body 7x7mm, Pitch 0.5mm, IPC High Density)
footprint LQFP48_M (Thin QFP, 48-Leads, Body 7x7mm, Pitch 0.5mm, IPC Low Density)
part A pins: 2 PC13-RTC_AF1-WKUP2 (io), 3 PC14-OSC32_IN (io), 4 PC15-OSC32_OUT (io), 5 PH0-OSC_IN (io), 6 PH1-OSC_OUT (io), 7 NRST (io), 10 PA0-WKUP1 (io), 11 PA1 (io), 12 PA2 (io), 13 PA3 (io), 14 PA4 (io), 15 PA5 (io), 16 PA6 (io), 17 PA7 (io), 18 PB0 (io), 19 PB1 (io), 20 PB2 (io), 21 PB10 (io), 22 PB11 (io), 25 PB12 (io), 26 PB13 (io), 27 PB14 (io), 28 PB15 (io), 29 PA8 (io), 30 PA9 (io), 31 PA10 (io), 32 PA11 (io), 33 PA12 (io), 34 PA13 (io), 37 PA14 (io), 38 PA15 (io), 39 PB3 (io), 40 PB4 (io), 41 PB5 (io), 42 PB6 (io), 43 PB7 (io), 44 BOOT0 (in), 45 PB8 (io), 46 PB9 (io)
part B pins: 1 VLCD (power), 8 VSSA (power), 9 VDDA (power), 23 VSS_1 (power), 24 VDD_1 (power), 35 VSS_2 (power), 36 VDD_2 (power), 47 VSS_3 (power), 48 VDD_3 (power)

## STM32L152CBU6
designator U?
STM32L ARM-based EnergyLite 32-bit MCU, LCD, 128 kB Flash, 16 kB Internal RAM, -40 to +85癈 Temperature, 48-pin UFQFPN, Tray; DatasheetVersion: rev6, Jan-2012; PackageVersion: 2011; PackageReference: UFQFPN48; PackageDescription: 48-Pin Ultra Thin Fine Pitch Quad Flat No-Lead, 7 x 7 x 0.55 mm Body, 0.5 mm Pitch, Exposed Pad; ComponentLink1Description: Manufacturer URL; ComponentLink1URL: http://www.st.com/; ComponentLink2Description: STM32L151/152 Datasheet; ComponentLink2URL: http://www.st.com/internet/com/TECHNICAL_RESOURCES/TECHNICAL_LITERATURE/DATASHEET/CD00277537.pdf; ComponentLink3Description: STM32 L1 Family Web Page; ComponentLink3URL: http://www.st.com/internet/mcu/subclass/1376.jsp
footprint UFQFPN48_N (QFN, 48-Leads, Body 7x7mm, Pitch 0.5mm, Thermal Pad 5.6x5.6mm, IPC Medium Density)
footprint UFQFPN48_L (QFN, 48-Leads, Body 7x7mm, Pitch 0.5mm, Thermal Pad 5.6x5.6mm, IPC High Density)
footprint UFQFPN48_M (QFN, 48-Leads, Body 7x7mm, Pitch 0.5mm, Thermal Pad 5.6x5.6mm, IPC Low Density)
part A pins: 2 PC13-RTC_AF1 (io), 3 PC14-OSC32_IN (io), 4 PC15-OSC32_OUT (io), 5 PH0-OSC_IN (io), 6 PH1-OSC_OUT (io), 7 NRST (io), 10 PA0-WKUP (io), 11 PA1 (io), 12 PA2 (io), 13 PA3 (io), 14 PA4 (io), 15 PA5 (io), 16 PA6 (io), 17 PA7 (io), 18 PB0 (io), 19 PB1 (io), 20 PB2 (io), 21 PB10 (io), 22 PB11 (io), 25 PB12 (io), 26 PB13 (io), 27 PB14 (io), 28 PB15 (io), 29 PA8 (io), 30 PA9 (io), 31 PA10 (io), 32 PA11 (io), 33 PA12 (io), 34 PA13 (io), 37 PA14 (io), 38 PA15 (io), 39 PB3 (io), 40 PB4 (io), 41 PB5 (io), 42 PB6 (io), 43 PB7 (io), 44 BOOT0 (in), 45 PB8 (io), 46 PB9 (io)
part B pins: 1 VLCD (power), 8 VSSA (power), 9 VDDA (power), 23 VSS_1 (power), 24 VDD_1 (power), 35 VSS_2 (power), 36 VDD_2 (power), 47 VSS_3 (power), 48 VDD_3 (power), 49 EP (power)

## STM32L152R8H6
designator U?
STM32L ARM-based EnergyLite 32-bit MCU, LCD, 64 kB Flash, 10 kB Internal RAM, -40 to +85癈 Temperature, 64-pin TFBGA, Tray; DatasheetVersion: rev6, Jan-2012; PackageVersion: 2011; PackageReference: TFBGA64; PackageDescription: 64-Ball Thin Fine-Pitch BGA (8x8 Array), 5 x 5 mm Body, 0.5 mm Pitch; ComponentLink1Description: Manufacturer URL; ComponentLink1URL: http://www.st.com/; ComponentLink2Description: STM32L151/152 Datasheet; ComponentLink2URL: http://www.st.com/internet/com/TECHNICAL_RESOURCES/TECHNICAL_LITERATURE/DATASHEET/CD00277537.pdf; ComponentLink3Description: STM32 L1 Family Web Page; ComponentLink3URL: http://www.st.com/internet/mcu/subclass/1376.jsp
footprint TFBGA64 (BGA, 64-Leads, Body 5x5mm, Pitch 0.5mm)
part A pins: A1 PC14-OSC32_IN (io), A2 PC13-RTC_AF1-WKUP2 (io), A3 PB9 (io), A4 PB4 (io), A5 PB3 (io), A6 PA15 (io), A7 PA14 (io), A8 PA13 (io), B1 PC15-OSC32_OUT (io), B3 PB8 (io), B4 BOOT0 (in), B5 PD2 (io), B6 PC11 (io), B7 PC10 (io), B8 PA12 (io), C1 PH0-OSC_IN (io), C3 PB7 (io), C4 PB5 (io), C5 PC12 (io), C6 PA10 (io), C7 PA9 (io), C8 PA11 (io), D1 PH1-OSC_OUT (io), D3 PB6 (io), D7 PA8 (io), D8 PC9 (io), E1 NRST (io), E2 PC1 (io), E3 PC0 (io), E7 PC7 (io), E8 PC8 (io), F2 PC2 (io), F3 PA2 (io), F4 PA5 (io), F5 PB0 (io), F6 PC6 (io), F7 PB15 (io), F8 PB14 (io), G2 PA0-WKUP1 (io), G3 PA3 (io), G4 PA6 (io), G5 PB1 (io), G6 PB2 (io), G7 PB10 (io), G8 PB13 (io), H2 PA1 (io), H3 PA4 (io), H4 PA7 (io), H5 PC4 (io), H6 PC5 (io), H7 PB11 (io), H8 PB12 (io)
part B pins: B2 VLCD (power), C2 VSS_4 (power), D2 VDD_4 (power), D4 VSS_3 (power), D5 VSS_2 (power), D6 VSS_1 (power), E4 VDD_3 (power), E5 VDD_2 (power), E6 VDD_1 (power), F1 VSSA (power), G1 VREF+ (power), H1 VDDA (power)

## STM32L152R8T6
designator U?
STM32L ARM-based EnergyLite 32-bit MCU, LCD, 64 kB Flash, 10 kB Internal RAM, -40 to +85癈 Temperature, 64-pin LQFP, Tray; DatasheetVersion: rev6, Jan-2012; PackageVersion: rev13, Apr-2011; PackageReference: LQFP64; PackageDescription: 64-Pin Low-Profile Quad Flat Pack, 10 x 10 mm Body, 0.5 mm Pitch (LQFP64); ComponentLink1Description: Manufacturer URL; ComponentLink1URL: http://www.st.com/; ComponentLink2Description: STM32L151/152 Datasheet; ComponentLink2URL: http://www.st.com/internet/com/TECHNICAL_RESOURCES/TECHNICAL_LITERATURE/DATASHEET/CD00277537.pdf; ComponentLink3Description: STM32 L1 Family Web Page; ComponentLink3URL: http://www.st.com/internet/mcu/subclass/1376.jsp
footprint LQFP64_N (Thin QFP, 64-Leads, Body 10x10mm, Pitch 0.5mm, IPC Medium Density)
footprint LQFP64_L (Thin QFP, 64-Leads, Body 10x10mm, Pitch 0.5mm, IPC High Density)
footprint LQFP64_M (Thin QFP, 64-Leads, Body 10x10mm, Pitch 0.5mm, IPC Low Density)
part A pins: 2 PC13-RTC_AF1-WKUP2 (io), 3 PC14-OSC32_IN (io), 4 PC15-OSC32_OUT (io), 5 PH0-OSC_IN (io), 6 PH1-OSC_OUT (io), 7 NRST (io), 8 PC0 (io), 9 PC1 (io), 10 PC2 (io), 11 PC3 (io), 14 PA0-WKUP1 (io), 15 PA1 (io), 16 PA2 (io), 17 PA3 (io), 20 PA4 (io), 21 PA5 (io), 22 PA6 (io), 23 PA7 (io), 24 PC4 (io), 25 PC5 (io), 26 PB0 (io), 27 PB1 (io), 28 PB2 (io), 29 PB10 (io), 30 PB11 (io), 33 PB12 (io), 34 PB13 (io), 35 PB14 (io), 36 PB15 (io), 37 PC6 (io), 38 PC7 (io), 39 PC8 (io), 40 PC9 (io), 41 PA8 (io), 42 PA9 (io), 43 PA10 (io), 44 PA11 (io), 45 PA12 (io), 46 PA13 (io), 49 PA14 (io), 50 PA15 (io), 51 PC10 (io), 52 PC11 (io), 53 PC12 (io), 54 PD2 (io), 55 PB3 (io), 56 PB4 (io), 57 PB5 (io), 58 PB6 (io), 59 PB7 (io), 60 BOOT0 (in), 61 PB8 (io), 62 PB9 (io)
part B pins: 1 VLCD (power), 12 VSSA (power), 13 VDDA (power), 18 VSS_4 (power), 19 VDD_4 (power), 31 VSS_1 (power), 32 VDD_1 (power), 47 VSS_2 (power), 48 VDD_2 (power), 63 VSS_3 (power), 64 VDD_3 (power)

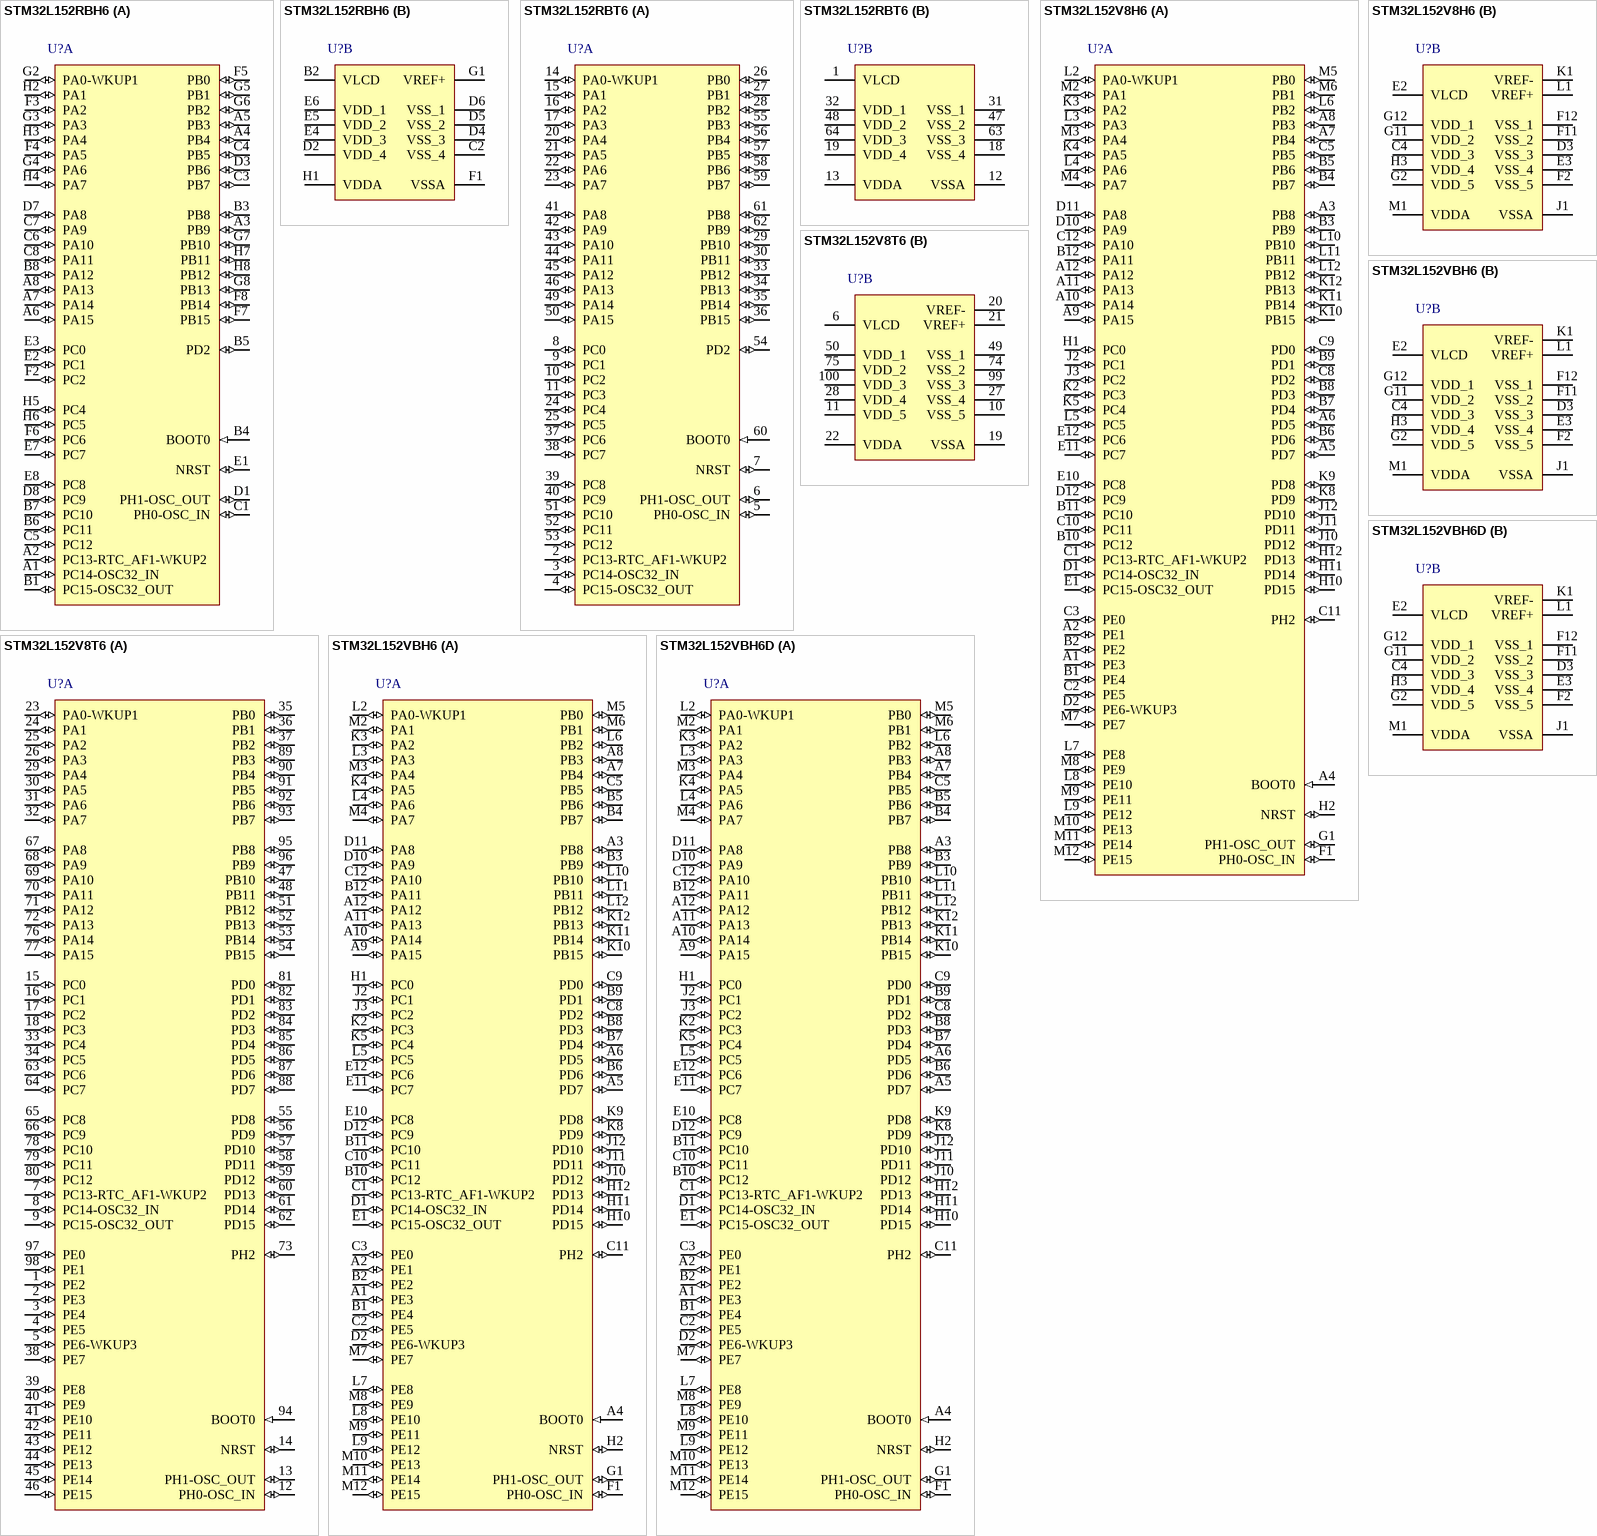
[diagram p3: symbols STM32L152RBH6 to STM32L152VBH6D]

## STM32L152RBH6
designator U?
STM32L ARM-based EnergyLite 32-bit MCU, LCD, 128 kB Flash, 16 kB Internal RAM, -40 to +85癈 Temperature, 64-pin TFBGA, Tray; DatasheetVersion: rev6, Jan-2012; PackageVersion: 2011; PackageReference: TFBGA64; PackageDescription: 64-Ball Thin Fine-Pitch BGA (8x8 Array), 5 x 5 mm Body, 0.5 mm Pitch; ComponentLink1Description: Manufacturer URL; ComponentLink1URL: http://www.st.com/; ComponentLink2Description: STM32L151/152 Datasheet; ComponentLink2URL: http://www.st.com/internet/com/TECHNICAL_RESOURCES/TECHNICAL_LITERATURE/DATASHEET/CD00277537.pdf; ComponentLink3Description: STM32 L1 Family Web Page; ComponentLink3URL: http://www.st.com/internet/mcu/subclass/1376.jsp
footprint TFBGA64 (BGA, 64-Leads, Body 5x5mm, Pitch 0.5mm)
part A pins: A1 PC14-OSC32_IN (io), A2 PC13-RTC_AF1-WKUP2 (io), A3 PB9 (io), A4 PB4 (io), A5 PB3 (io), A6 PA15 (io), A7 PA14 (io), A8 PA13 (io), B1 PC15-OSC32_OUT (io), B3 PB8 (io), B4 BOOT0 (in), B5 PD2 (io), B6 PC11 (io), B7 PC10 (io), B8 PA12 (io), C1 PH0-OSC_IN (io), C3 PB7 (io), C4 PB5 (io), C5 PC12 (io), C6 PA10 (io), C7 PA9 (io), C8 PA11 (io), D1 PH1-OSC_OUT (io), D3 PB6 (io), D7 PA8 (io), D8 PC9 (io), E1 NRST (io), E2 PC1 (io), E3 PC0 (io), E7 PC7 (io), E8 PC8 (io), F2 PC2 (io), F3 PA2 (io), F4 PA5 (io), F5 PB0 (io), F6 PC6 (io), F7 PB15 (io), F8 PB14 (io), G2 PA0-WKUP1 (io), G3 PA3 (io), G4 PA6 (io), G5 PB1 (io), G6 PB2 (io), G7 PB10 (io), G8 PB13 (io), H2 PA1 (io), H3 PA4 (io), H4 PA7 (io), H5 PC4 (io), H6 PC5 (io), H7 PB11 (io), H8 PB12 (io)
part B pins: B2 VLCD (power), C2 VSS_4 (power), D2 VDD_4 (power), D4 VSS_3 (power), D5 VSS_2 (power), D6 VSS_1 (power), E4 VDD_3 (power), E5 VDD_2 (power), E6 VDD_1 (power), F1 VSSA (power), G1 VREF+ (power), H1 VDDA (power)

## STM32L152RBT6
designator U?
STM32L ARM-based EnergyLite 32-bit MCU, LCD, 128 kB Flash, 16 kB Internal RAM, -40 to +85癈 Temperature, 64-pin LQFP, Tray; DatasheetVersion: rev6, Jan-2012; PackageVersion: rev13, Apr-2011; PackageReference: LQFP64; PackageDescription: 64-Pin Low-Profile Quad Flat Pack, 10 x 10 mm Body, 0.5 mm Pitch (LQFP64); ComponentLink1Description: Manufacturer URL; ComponentLink1URL: http://www.st.com/; ComponentLink2Description: STM32L151/152 Datasheet; ComponentLink2URL: http://www.st.com/internet/com/TECHNICAL_RESOURCES/TECHNICAL_LITERATURE/DATASHEET/CD00277537.pdf; ComponentLink3Description: STM32 L1 Family Web Page; ComponentLink3URL: http://www.st.com/internet/mcu/subclass/1376.jsp
footprint LQFP64_N (Thin QFP, 64-Leads, Body 10x10mm, Pitch 0.5mm, IPC Medium Density)
footprint LQFP64_L (Thin QFP, 64-Leads, Body 10x10mm, Pitch 0.5mm, IPC High Density)
footprint LQFP64_M (Thin QFP, 64-Leads, Body 10x10mm, Pitch 0.5mm, IPC Low Density)
part A pins: 2 PC13-RTC_AF1-WKUP2 (io), 3 PC14-OSC32_IN (io), 4 PC15-OSC32_OUT (io), 5 PH0-OSC_IN (io), 6 PH1-OSC_OUT (io), 7 NRST (io), 8 PC0 (io), 9 PC1 (io), 10 PC2 (io), 11 PC3 (io), 14 PA0-WKUP1 (io), 15 PA1 (io), 16 PA2 (io), 17 PA3 (io), 20 PA4 (io), 21 PA5 (io), 22 PA6 (io), 23 PA7 (io), 24 PC4 (io), 25 PC5 (io), 26 PB0 (io), 27 PB1 (io), 28 PB2 (io), 29 PB10 (io), 30 PB11 (io), 33 PB12 (io), 34 PB13 (io), 35 PB14 (io), 36 PB15 (io), 37 PC6 (io), 38 PC7 (io), 39 PC8 (io), 40 PC9 (io), 41 PA8 (io), 42 PA9 (io), 43 PA10 (io), 44 PA11 (io), 45 PA12 (io), 46 PA13 (io), 49 PA14 (io), 50 PA15 (io), 51 PC10 (io), 52 PC11 (io), 53 PC12 (io), 54 PD2 (io), 55 PB3 (io), 56 PB4 (io), 57 PB5 (io), 58 PB6 (io), 59 PB7 (io), 60 BOOT0 (in), 61 PB8 (io), 62 PB9 (io)
part B pins: 1 VLCD (power), 12 VSSA (power), 13 VDDA (power), 18 VSS_4 (power), 19 VDD_4 (power), 31 VSS_1 (power), 32 VDD_1 (power), 47 VSS_2 (power), 48 VDD_2 (power), 63 VSS_3 (power), 64 VDD_3 (power)

## STM32L152V8H6
designator U?
STM32L ARM-based EnergyLite 32-bit MCU, LCD, 64 kB Flash, 10 kB Internal RAM, -40 to +85癈 Temperature, 100-pin UFBGA, Tray; DatasheetVersion: rev6, Jan-2012; PackageVersion: 2011; PackageReference: UFBGA100; PackageDescription: 100-Ball Ultra Fine-Pitch Ball Grid Array, 7 x 7 mm Body, 0.5 mm Pitch; ComponentLink1Description: Manufacturer URL; ComponentLink1URL: http://www.st.com/; ComponentLink2Description: STM32L151/152 Datasheet; ComponentLink2URL: http://www.st.com/internet/com/TECHNICAL_RESOURCES/TECHNICAL_LITERATURE/DATASHEET/CD00277537.pdf; ComponentLink3Description: STM32 L1 Family Web Page; ComponentLink3URL: http://www.st.com/internet/mcu/subclass/1376.jsp
footprint UFBGA100 (BGA, 100-Leads, Body 7x7mm, Pitch 0.5mm)
part A pins: A1 PE3 (io), A2 PE1 (io), A3 PB8 (io), A4 BOOT0 (in), A5 PD7 (io), A6 PD5 (io), A7 PB4 (io), A8 PB3 (io), A9 PA15 (io), A10 PA14 (io), A11 PA13 (io), A12 PA12 (io), B1 PE4 (io), B2 PE2 (io), B3 PB9 (io), B4 PB7 (io), B5 PB6 (io), B6 PD6 (io), B7 PD4 (io), B8 PD3 (io), B9 PD1 (io), B10 PC12 (io), B11 PC10 (io), B12 PA11 (io), C1 PC13-RTC_AF1-WKUP2 (io), C2 PE5 (io), C3 PE0 (io), C5 PB5 (io), C8 PD2 (io), C9 PD0 (io), C10 PC11 (io), C11 PH2 (io), C12 PA10 (io), D1 PC14-OSC32_IN (io), D2 PE6-WKUP3 (io), D10 PA9 (io), D11 PA8 (io), D12 PC9 (io), E1 PC15-OSC32_OUT (io), E10 PC8 (io), E11 PC7 (io), E12 PC6 (io), F1 PH0-OSC_IN (io), G1 PH1-OSC_OUT (io), H1 PC0 (io), H2 NRST (io), H10 PD15 (io), H11 PD14 (io), H12 PD13 (io), J2 PC1 (io), J3 PC2 (io), J10 PD12 (io), J11 PD11 (io), J12 PD10 (io), K2 PC3 (io), K3 PA2 (io), K4 PA5 (io), K5 PC4 (io), K8 PD9 (io), K9 PD8 (io), K10 PB15 (io), K11 PB14 (io), K12 PB13 (io), L2 PA0-WKUP1 (io), L3 PA3 (io), L4 PA6 (io), L5 PC5 (io), L6 PB2 (io), L7 PE8 (io), L8 PE10 (io), L9 PE12 (io), L10 PB10 (io), L11 PB11 (io), L12 PB12 (io), M2 PA1 (io), M3 PA4 (io), M4 PA7 (io), M5 PB0 (io), M6 PB1 (io), M7 PE7 (io), M8 PE9 (io), M9 PE11 (io), M10 PE13 (io), M11 PE14 (io), M12 PE15 (io)
part B pins: C4 VDD_3 (power), D3 VSS_3 (power), E2 VLCD (power), E3 VSS_4 (power), F2 VSS_5 (power), F11 VSS_2 (power), F12 VSS_1 (power), G2 VDD_5 (power), G11 VDD_2 (power), G12 VDD_1 (power), H3 VDD_4 (power), J1 VSSA (power), K1 VREF- (power), L1 VREF+ (power), M1 VDDA (power)

## STM32L152V8T6
designator U?
STM32L ARM-based EnergyLite 32-bit MCU, LCD, 64 kB Flash, 10 kB Internal RAM, -40 to +85癈 Temperature, 100-pin LQFP, Tray; DatasheetVersion: rev6, Jan-2012; PackageVersion: 2012; PackageReference: LQFP100; PackageDescription: 100-Pin Low Profile Quad Flat Package, 14x14 mm Body, 0.5 mm Pitch; ComponentLink1Description: Manufacturer URL; ComponentLink1URL: http://www.st.com/; ComponentLink2Description: STM32L151/152 Datasheet; ComponentLink2URL: http://www.st.com/internet/com/TECHNICAL_RESOURCES/TECHNICAL_LITERATURE/DATASHEET/CD00277537.pdf; ComponentLink3Description: STM32 L1 Family Web Page; ComponentLink3URL: http://www.st.com/internet/mcu/subclass/1376.jsp
footprint LQFP100_V (Thin QFP, 100-Leads, Body 14x14mm, Pitch 0.5mm, ST Recommended)
footprint LQFP100_N (Thin QFP, 100-Leads, Body 14x14mm, Pitch 0.5mm, IPC Medium Density)
footprint LQFP100_L (Thin QFP, 100-Leads, Body 14x14mm, Pitch 0.5mm, IPC High Density)
footprint LQFP100_M (Thin QFP, 100-Leads, Body 14x14mm, Pitch 0.5mm, IPC Low Density)
part A pins: 1 PE2 (io), 2 PE3 (io), 3 PE4 (io), 4 PE5 (io), 5 PE6-WKUP3 (io), 7 PC13-RTC_AF1-WKUP2 (io), 8 PC14-OSC32_IN (io), 9 PC15-OSC32_OUT (io), 12 PH0-OSC_IN (io), 13 PH1-OSC_OUT (io), 14 NRST (io), 15 PC0 (io), 16 PC1 (io), 17 PC2 (io), 18 PC3 (io), 23 PA0-WKUP1 (io), 24 PA1 (io), 25 PA2 (io), 26 PA3 (io), 29 PA4 (io), 30 PA5 (io), 31 PA6 (io), 32 PA7 (io), 33 PC4 (io), 34 PC5 (io), 35 PB0 (io), 36 PB1 (io), 37 PB2 (io), 38 PE7 (io), 39 PE8 (io), 40 PE9 (io), 41 PE10 (io), 42 PE11 (io), 43 PE12 (io), 44 PE13 (io), 45 PE14 (io), 46 PE15 (io), 47 PB10 (io), 48 PB11 (io), 51 PB12 (io), 52 PB13 (io), 53 PB14 (io), 54 PB15 (io), 55 PD8 (io), 56 PD9 (io), 57 PD10 (io), 58 PD11 (io), 59 PD12 (io), 60 PD13 (io), 61 PD14 (io), 62 PD15 (io), 63 PC6 (io), 64 PC7 (io), 65 PC8 (io), 66 PC9 (io), 67 PA8 (io), 68 PA9 (io), 69 PA10 (io), 70 PA11 (io), 71 PA12 (io), 72 PA13 (io), 73 PH2 (io), 76 PA14 (io), 77 PA15 (io), 78 PC10 (io), 79 PC11 (io), 80 PC12 (io), 81 PD0 (io), 82 PD1 (io), 83 PD2 (io), 84 PD3 (io), 85 PD4 (io), 86 PD5 (io), 87 PD6 (io), 88 PD7 (io), 89 PB3 (io), 90 PB4 (io), 91 PB5 (io), 92 PB6 (io), 93 PB7 (io), 94 BOOT0 (in), 95 PB8 (io), 96 PB9 (io), 97 PE0 (io), 98 PE1 (io)
part B pins: 6 VLCD (power), 10 VSS_5 (power), 11 VDD_5 (power), 19 VSSA (power), 20 VREF- (power), 21 VREF+ (power), 22 VDDA (power), 27 VSS_4 (power), 28 VDD_4 (power), 49 VSS_1 (power), 50 VDD_1 (power), 74 VSS_2 (power), 75 VDD_2 (power), 99 VSS_3 (power), 100 VDD_3 (power)

## STM32L152VBH6
designator U?
STM32L ARM-based EnergyLite 32-bit MCU, LCD, 128 kB Flash, 16 kB Internal RAM, -40 to +85癈 Temperature, 100-pin UFBGA, Tray; DatasheetVersion: rev6, Jan-2012; PackageVersion: 2011; PackageReference: UFBGA100; PackageDescription: 100-Ball Ultra Fine-Pitch Ball Grid Array, 7 x 7 mm Body, 0.5 mm Pitch; ComponentLink1Description: Manufacturer URL; ComponentLink1URL: http://www.st.com/; ComponentLink2Description: STM32L151/152 Datasheet; ComponentLink2URL: http://www.st.com/internet/com/TECHNICAL_RESOURCES/TECHNICAL_LITERATURE/DATASHEET/CD00277537.pdf; ComponentLink3Description: STM32 L1 Family Web Page; ComponentLink3URL: http://www.st.com/internet/mcu/subclass/1376.jsp
footprint UFBGA100 (BGA, 100-Leads, Body 7x7mm, Pitch 0.5mm)
part A pins: A1 PE3 (io), A2 PE1 (io), A3 PB8 (io), A4 BOOT0 (in), A5 PD7 (io), A6 PD5 (io), A7 PB4 (io), A8 PB3 (io), A9 PA15 (io), A10 PA14 (io), A11 PA13 (io), A12 PA12 (io), B1 PE4 (io), B2 PE2 (io), B3 PB9 (io), B4 PB7 (io), B5 PB6 (io), B6 PD6 (io), B7 PD4 (io), B8 PD3 (io), B9 PD1 (io), B10 PC12 (io), B11 PC10 (io), B12 PA11 (io), C1 PC13-RTC_AF1-WKUP2 (io), C2 PE5 (io), C3 PE0 (io), C5 PB5 (io), C8 PD2 (io), C9 PD0 (io), C10 PC11 (io), C11 PH2 (io), C12 PA10 (io), D1 PC14-OSC32_IN (io), D2 PE6-WKUP3 (io), D10 PA9 (io), D11 PA8 (io), D12 PC9 (io), E1 PC15-OSC32_OUT (io), E10 PC8 (io), E11 PC7 (io), E12 PC6 (io), F1 PH0-OSC_IN (io), G1 PH1-OSC_OUT (io), H1 PC0 (io), H2 NRST (io), H10 PD15 (io), H11 PD14 (io), H12 PD13 (io), J2 PC1 (io), J3 PC2 (io), J10 PD12 (io), J11 PD11 (io), J12 PD10 (io), K2 PC3 (io), K3 PA2 (io), K4 PA5 (io), K5 PC4 (io), K8 PD9 (io), K9 PD8 (io), K10 PB15 (io), K11 PB14 (io), K12 PB13 (io), L2 PA0-WKUP1 (io), L3 PA3 (io), L4 PA6 (io), L5 PC5 (io), L6 PB2 (io), L7 PE8 (io), L8 PE10 (io), L9 PE12 (io), L10 PB10 (io), L11 PB11 (io), L12 PB12 (io), M2 PA1 (io), M3 PA4 (io), M4 PA7 (io), M5 PB0 (io), M6 PB1 (io), M7 PE7 (io), M8 PE9 (io), M9 PE11 (io), M10 PE13 (io), M11 PE14 (io), M12 PE15 (io)
part B pins: C4 VDD_3 (power), D3 VSS_3 (power), E2 VLCD (power), E3 VSS_4 (power), F2 VSS_5 (power), F11 VSS_2 (power), F12 VSS_1 (power), G2 VDD_5 (power), G11 VDD_2 (power), G12 VDD_1 (power), H3 VDD_4 (power), J1 VSSA (power), K1 VREF- (power), L1 VREF+ (power), M1 VDDA (power)